# EAGLE library part ATTINY40 (library atmel)
8-bit AVR tiny Microcontroller Status aktiv ATtiny40 General purpose working registers 16 SRAM 256 B Program flash memory 4 kB 16-bit Timer/Counter 1 8-bit Timer/Counter 1 SPI 1 TWI (I2C) 1 ADC channels 12 ADC resolution 10 bit AC 1 Watchdog 1 General purpose I/O 18 External interrupts 18 Operating voltage 1.8 ... 5.5 V Speed grade 0 ... 4 MHz @ 1.8 ... 5.5 V 0 ... 8 MHz @ 2.7 ... 5.5 V 0 ... 12 MHz @ 4.5 ... 5.5 V Clock options calibrated internal 8 MHz oscillator internal 128 kHz oscillator external clock input
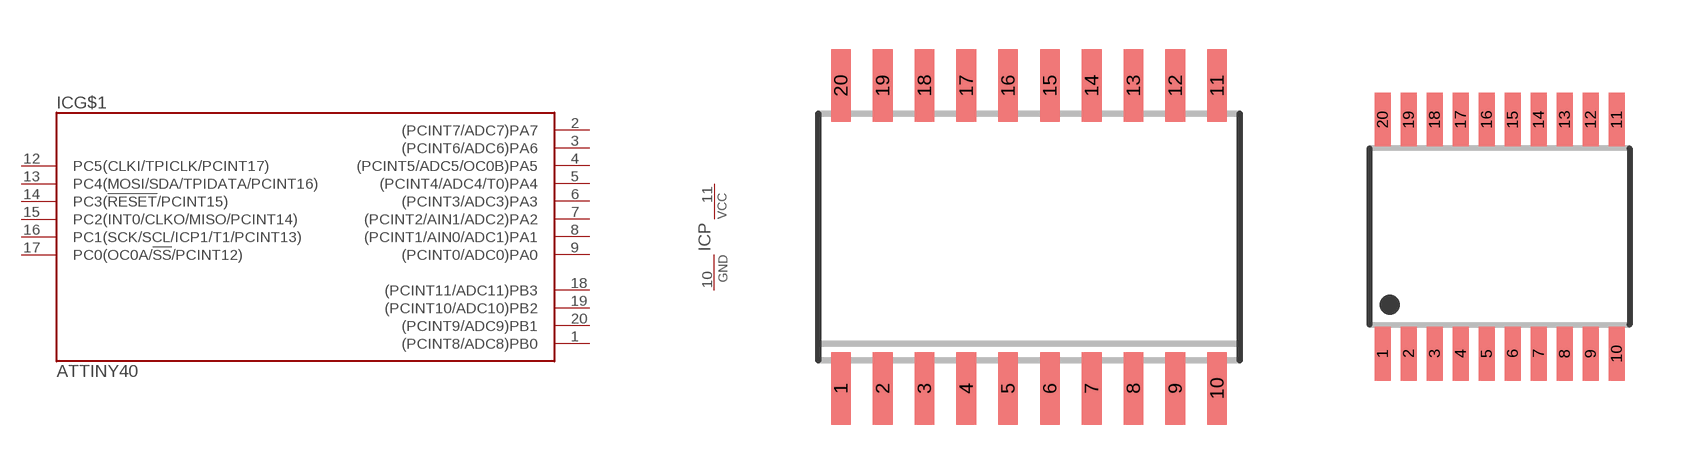
[diagram p76: symbol with the pads of SO20W; footprints SO20W, MO-153AC]

Designator prefix IC; gates G$1=TINY40 P=PWR

## ATTINY40-SU  [SO20W]
1  G$1:(PCINT8/ADC8)PB0
2  G$1:(PCINT7/ADC7)PA7
3  G$1:(PCINT6/ADC6)PA6
4  G$1:(PCINT5/ADC5/OC0B)PA5
5  G$1:(PCINT4/ADC4/T0)PA4
6  G$1:(PCINT3/ADC3)PA3
7  G$1:(PCINT2/AIN1/ADC2)PA2
8  G$1:(PCINT1/AIN0/ADC1)PA1
9  G$1:(PCINT0/ADC0)PA0
10  P:GND  pwr
11  P:VCC  pwr
12  G$1:PC5(CLKI/TPICLK/PCINT17)
13  G$1:PC4(MOSI/SDA/TPIDATA/PCINT16)
14  G$1:PC3(!RESET!/PCINT15)
15  G$1:PC2(INT0/CLKO/MISO/PCINT14)
16  G$1:PC1(SCK/SCL/ICP1/T1/PCINT13)
17  G$1:PC0(OC0A/!SS!/PCINT12)
18  G$1:(PCINT11/ADC11)PB3
19  G$1:(PCINT10/ADC10)PB2
20  G$1:(PCINT9/ADC9)PB1

## ATTINY40-XU  [MO-153AC]
Pads as for SO20W

## ATTINY40-MMH  [QFN20_3X3_0.45]
1  G$1:(PCINT6/ADC6)PA6
2  G$1:(PCINT5/ADC5/OC0B)PA5
3  G$1:(PCINT4/ADC4/T0)PA4
4  G$1:(PCINT3/ADC3)PA3
5  G$1:(PCINT2/AIN1/ADC2)PA2
6  G$1:(PCINT1/AIN0/ADC1)PA1
7  G$1:(PCINT0/ADC0)PA0
8  P:GND  pwr
9  P:VCC  pwr
10  G$1:PC5(CLKI/TPICLK/PCINT17)
11  G$1:PC4(MOSI/SDA/TPIDATA/PCINT16)
12  G$1:PC3(!RESET!/PCINT15)
13  G$1:PC2(INT0/CLKO/MISO/PCINT14)
14  G$1:PC1(SCK/SCL/ICP1/T1/PCINT13)
15  G$1:PC0(OC0A/!SS!/PCINT12)
16  G$1:(PCINT11/ADC11)PB3
17  G$1:(PCINT10/ADC10)PB2
18  G$1:(PCINT9/ADC9)PB1
19  G$1:(PCINT8/ADC8)PB0
20  G$1:(PCINT7/ADC7)PA7
EXP  P:GND  pwr

## Footprint SO20W (pad centres in mm)
Small Outline IC, 300mil body width, 50mil lead pitch package/pad dimensions according to IPC-SM-782, RLP No. 306A JEDEC: MS-013 AC IPC: SO20W other notations: SO-20W, SOIC20W, SOIC-20W
smd 0.6 x 2.2: 1 -5.715,-4.6; 2 -4.445,-4.6; 3 -3.175,-4.6; 4 -1.905,-4.6; 5 -0.635,-4.6; 6 0.635,-4.6; 7 1.905,-4.6; 8 3.175,-4.6; 9 4.445,-4.6; 10 5.715,-4.6; 11 5.715,4.6; 12 4.445,4.6; 13 3.175,4.6; 14 1.905,4.6; 15 0.635,4.6; 16 -0.635,4.6; 17 -1.905,4.6; 18 -3.175,4.6; 19 -4.445,4.6; 20 -5.715,4.6

## Footprint MO-153AC (pad centres in mm)
Small Shrink Outline Package, 6.5mm x 4.4mm body, 0.65mm lead pitch JEDEC: MO-153, variation AC NXP: TSSOP20 (SOT360) Texas Instruments: PW (R-PDSO-G20) other notations: TSSOP20, TSSOP-20
smd 0.4 x 1.35: 1 -2.925,-2.925; 2 -2.275,-2.925; 3 -1.625,-2.925; 4 -0.975,-2.925; 5 -0.325,-2.925; 6 0.325,-2.925; 7 0.975,-2.925; 8 1.625,-2.925; 9 2.275,-2.925; 10 2.925,-2.925; 11 2.925,2.925; 12 2.275,2.925; 13 1.625,2.925; 14 0.975,2.925; 15 0.325,2.925; 16 -0.325,2.925; 17 -0.975,2.925; 18 -1.625,2.925; 19 -2.275,2.925; 20 -2.925,2.925

## Footprint QFN20_3X3_0.45 (pad centres in mm)
20-Lead Plastic QFN, 3mm x 3mm body, 0.45mm lead pitch, exposed pad ATMEL Code: 20M2, ZFC
smd 0.7 x 0.25: 1 -1.55,0.9; 5 -1.55,-0.9; 11 1.55,-0.9; 15 1.55,0.9
smd 0.8 x 0.25: 2 -1.5,0.45; 3 -1.5,0; 4 -1.5,-0.45; 12 1.5,-0.45; 13 1.5,0; 14 1.5,0.45
smd 0.25 x 0.7: 6 -0.9,-1.55; 10 0.9,-1.55; 16 0.9,1.55; 20 -0.9,1.55
smd 0.25 x 0.8: 7 -0.45,-1.5; 8 0,-1.5; 9 0.45,-1.5; 17 0.45,1.5; 18 0,1.5; 19 -0.45,1.5
smd 1.6 x 1.6: EXP 0,0